# Altium schematic symbol library 75HC573.SchLib: 1 symbol
Pins are listed as number, name and electrical type; pins without a type are passive.

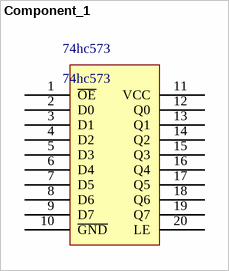
[diagram p0: symbol Component_1]

## Component_1
designator 74hc573, comment 74hc573
footprint DIP20
pins: 1 ~{OE}, 2 D0, 3 D1, 4 D2, 5 D3, 6 D4, 7 D5, 8 D6, 9 D7, 10 ~{GND}, 11 VCC, 12 Q0, 13 Q1, 14 Q2, 15 Q3, 16 Q4, 17 Q5, 18 Q6, 19 Q7, 20 LE